# Altium schematic symbol library SCH - MCU - STM32 - ST MICROELECTRONICS STM32F205R(B-C-E-F-G)TX LQFP64.SchLib: 1 symbol
Pins are listed as number, name and electrical type; pins without a type are passive.

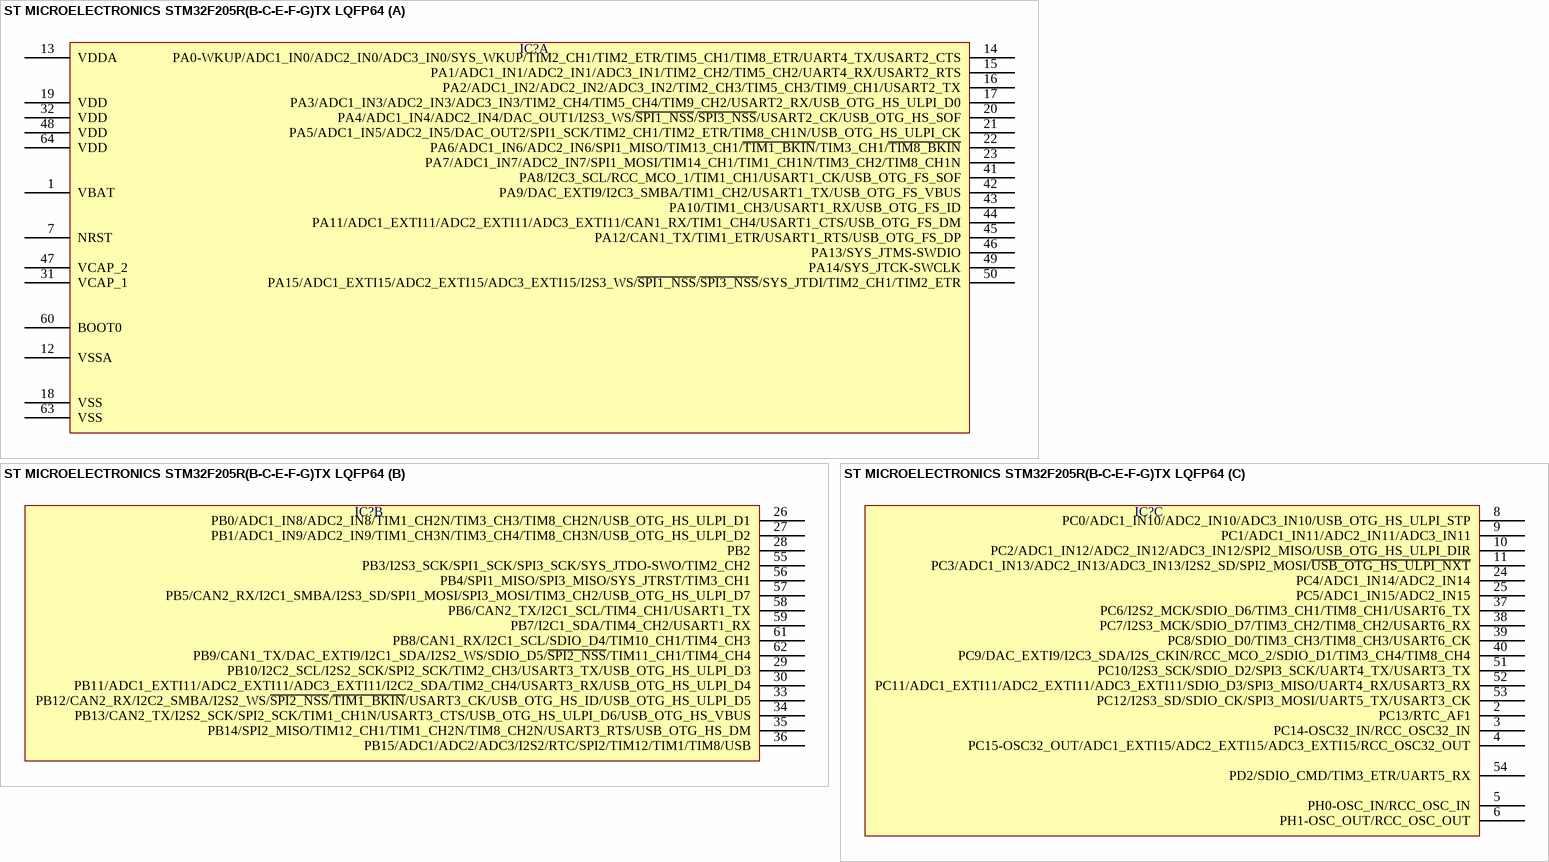
[diagram p0: symbol ST MICROELECTRONICS STM32F205R(B-C-E-F-G)TX LQFP64]

## ST MICROELECTRONICS STM32F205R(B-C-E-F-G)TX LQFP64
designator IC?  (value not drawn)
part A pins: 1 VBAT, 7 NRST, 12 VSSA, 13 VDDA, 14 PA0-WKUP/ADC1_IN0/ADC2_IN0/ADC3_IN0/SYS_WKUP/TIM2_CH1/TIM2_ETR/TIM5_CH1/TIM8_ETR/UART4_TX/USART2_CTS, 15 PA1/ADC1_IN1/ADC2_IN1/ADC3_IN1/TIM2_CH2/TIM5_CH2/UART4_RX/USART2_RTS, 16 PA2/ADC1_IN2/ADC2_IN2/ADC3_IN2/TIM2_CH3/TIM5_CH3/TIM9_CH1/USART2_TX, 17 PA3/ADC1_IN3/ADC2_IN3/ADC3_IN3/TIM2_CH4/TIM5_CH4/TIM9_CH2/USART2_RX/USB_OTG_HS_ULPI_D0, 18 VSS, 19 VDD, 20 PA4/ADC1_IN4/ADC2_IN4/DAC_OUT1/I2S3_WS/~{SPI1_NSS}/~{SPI3_NSS}/USART2_CK/USB_OTG_HS_SOF, 21 PA5/ADC1_IN5/ADC2_IN5/DAC_OUT2/SPI1_SCK/TIM2_CH1/TIM2_ETR/TIM8_CH1N/USB_OTG_HS_ULPI_CK, 22 PA6/ADC1_IN6/ADC2_IN6/SPI1_MISO/TIM13_CH1/~{TIM1_BKIN}/TIM3_CH1/~{TIM8_BKIN}, 23 PA7/ADC1_IN7/ADC2_IN7/SPI1_MOSI/TIM14_CH1/TIM1_CH1N/TIM3_CH2/TIM8_CH1N, 31 VCAP_1, 32 VDD, 41 PA8/I2C3_SCL/RCC_MCO_1/TIM1_CH1/USART1_CK/USB_OTG_FS_SOF, 42 PA9/DAC_EXTI9/I2C3_SMBA/TIM1_CH2/USART1_TX/USB_OTG_FS_VBUS, 43 PA10/TIM1_CH3/USART1_RX/USB_OTG_FS_ID, 44 PA11/ADC1_EXTI11/ADC2_EXTI11/ADC3_EXTI11/CAN1_RX/TIM1_CH4/USART1_CTS/USB_OTG_FS_DM, 45 PA12/CAN1_TX/TIM1_ETR/USART1_RTS/USB_OTG_FS_DP, 46 PA13/SYS_JTMS-SWDIO, 47 VCAP_2, 48 VDD, 49 PA14/SYS_JTCK-SWCLK, 50 PA15/ADC1_EXTI15/ADC2_EXTI15/ADC3_EXTI15/I2S3_WS/~{SPI1_NSS}/~{SPI3_NSS}/SYS_JTDI/TIM2_CH1/TIM2_ETR, 60 BOOT0, 63 VSS, 64 VDD
part B pins: 26 PB0/ADC1_IN8/ADC2_IN8/TIM1_CH2N/TIM3_CH3/TIM8_CH2N/USB_OTG_HS_ULPI_D1, 27 PB1/ADC1_IN9/ADC2_IN9/TIM1_CH3N/TIM3_CH4/TIM8_CH3N/USB_OTG_HS_ULPI_D2, 28 PB2, 29 PB10/I2C2_SCL/I2S2_SCK/SPI2_SCK/TIM2_CH3/USART3_TX/USB_OTG_HS_ULPI_D3, 30 PB11/ADC1_EXTI11/ADC2_EXTI11/ADC3_EXTI11/I2C2_SDA/TIM2_CH4/USART3_RX/USB_OTG_HS_ULPI_D4, 33 PB12/CAN2_RX/I2C2_SMBA/I2S2_WS/~{SPI2_NSS}/~{TIM1_BKIN}/USART3_CK/USB_OTG_HS_ID/USB_OTG_HS_ULPI_D5, 34 PB13/CAN2_TX/I2S2_SCK/SPI2_SCK/TIM1_CH1N/USART3_CTS/USB_OTG_HS_ULPI_D6/USB_OTG_HS_VBUS, 35 PB14/SPI2_MISO/TIM12_CH1/TIM1_CH2N/TIM8_CH2N/USART3_RTS/USB_OTG_HS_DM, 36 PB15/ADC1/ADC2/ADC3/I2S2/RTC/SPI2/TIM12/TIM1/TIM8/USB, 55 PB3/I2S3_SCK/SPI1_SCK/SPI3_SCK/SYS_JTDO-SWO/TIM2_CH2, 56 PB4/SPI1_MISO/SPI3_MISO/SYS_JTRST/TIM3_CH1, 57 PB5/CAN2_RX/I2C1_SMBA/I2S3_SD/SPI1_MOSI/SPI3_MOSI/TIM3_CH2/USB_OTG_HS_ULPI_D7, 58 PB6/CAN2_TX/I2C1_SCL/TIM4_CH1/USART1_TX, 59 PB7/I2C1_SDA/TIM4_CH2/USART1_RX, 61 PB8/CAN1_RX/I2C1_SCL/SDIO_D4/TIM10_CH1/TIM4_CH3, 62 PB9/CAN1_TX/DAC_EXTI9/I2C1_SDA/I2S2_WS/SDIO_D5/~{SPI2_NSS}/TIM11_CH1/TIM4_CH4
part C pins: 2 PC13/RTC_AF1, 3 PC14-OSC32_IN/RCC_OSC32_IN, 4 PC15-OSC32_OUT/ADC1_EXTI15/ADC2_EXTI15/ADC3_EXTI15/RCC_OSC32_OUT, 5 PH0-OSC_IN/RCC_OSC_IN, 6 PH1-OSC_OUT/RCC_OSC_OUT, 8 PC0/ADC1_IN10/ADC2_IN10/ADC3_IN10/USB_OTG_HS_ULPI_STP, 9 PC1/ADC1_IN11/ADC2_IN11/ADC3_IN11, 10 PC2/ADC1_IN12/ADC2_IN12/ADC3_IN12/SPI2_MISO/USB_OTG_HS_ULPI_DIR, 11 PC3/ADC1_IN13/ADC2_IN13/ADC3_IN13/I2S2_SD/SPI2_MOSI/~{USB_OTG_HS_ULPI_NXT}, 24 PC4/ADC1_IN14/ADC2_IN14, 25 PC5/ADC1_IN15/ADC2_IN15, 37 PC6/I2S2_MCK/SDIO_D6/TIM3_CH1/TIM8_CH1/USART6_TX, 38 PC7/I2S3_MCK/SDIO_D7/TIM3_CH2/TIM8_CH2/USART6_RX, 39 PC8/SDIO_D0/TIM3_CH3/TIM8_CH3/USART6_CK, 40 PC9/DAC_EXTI9/I2C3_SDA/I2S_CKIN/RCC_MCO_2/SDIO_D1/TIM3_CH4/TIM8_CH4, 51 PC10/I2S3_SCK/SDIO_D2/SPI3_SCK/UART4_TX/USART3_TX, 52 PC11/ADC1_EXTI11/ADC2_EXTI11/ADC3_EXTI11/SDIO_D3/SPI3_MISO/UART4_RX/USART3_RX, 53 PC12/I2S3_SD/SDIO_CK/SPI3_MOSI/UART5_TX/USART3_CK, 54 PD2/SDIO_CMD/TIM3_ETR/UART5_RX